# Altium footprint library 射频功率管.PcbLib: 7 footprints
Each footprint in its own frame and in the unit in brackets; x right, y up, seen from the top. Pads: shape width x height; smd on the part's side, far side on the other; paste and mask are expansions set on the pad; w line width, h text height; cw(c..) or ccw(c..) is an arc to the next point about the centre after c.
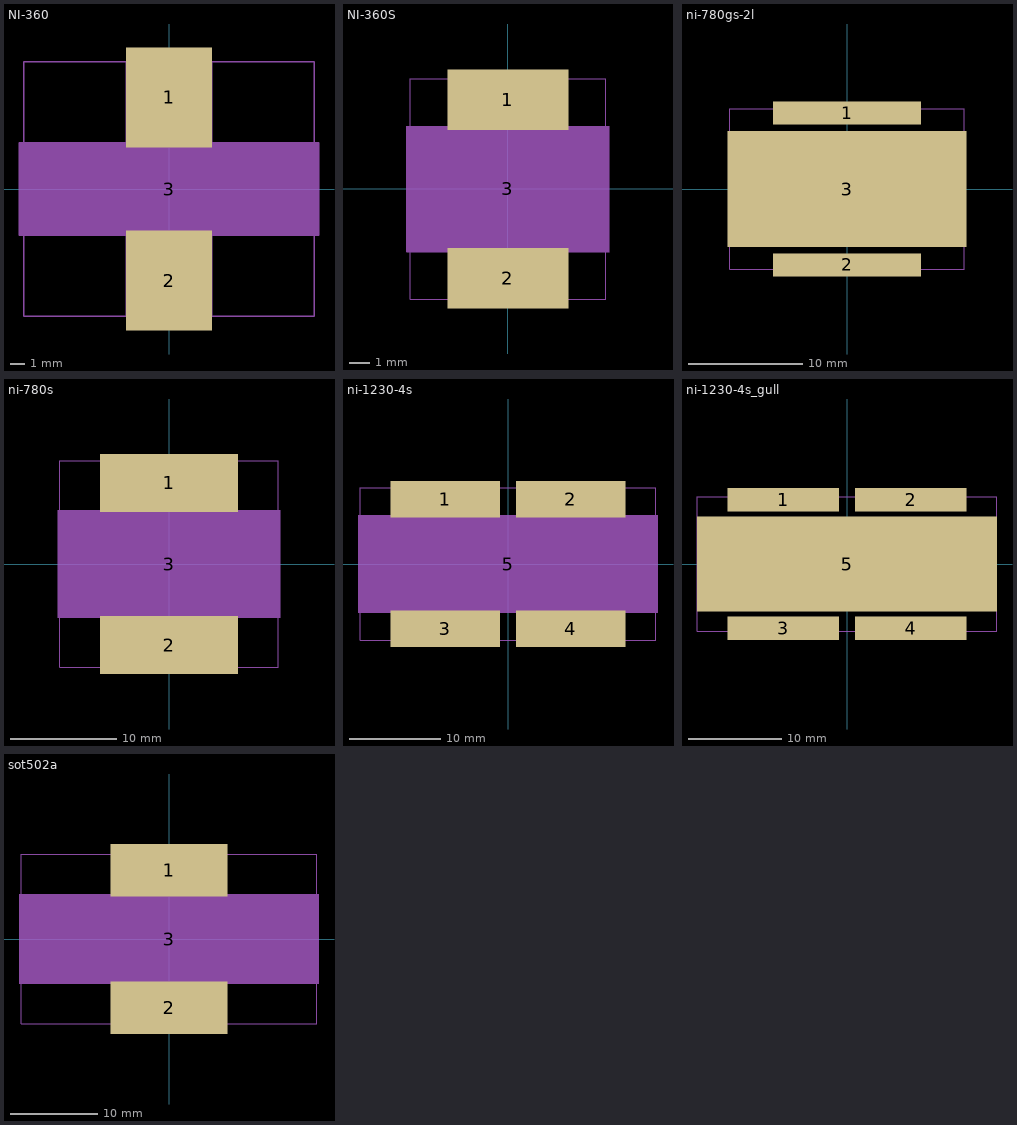
[diagram p0: the footprints below, top view; thin cyan lines are the x and y axes]

## NI-360 [mm] "RF 射频功率管"
height 5
pads (3):
  rect 6x7 smd: 1(0,6.42) 2(0,-6.42)
  rect 21x6.5 on Mech1: 3(0,0)
Mechanical 1:
  lines w0.1: -3,-3.25 -3,-8.89 3,-8.89 3,-3.25 ; -3,3.25 -3,8.89 3,8.89 3,3.25 ; -10.5,-3.25 -10.5,3.25 10.5,3.25 10.5,-3.25 -10.5,-3.25
Mechanical 13:
  lines w0.1: -10.16,-8.892 -10.16,8.892 10.16,8.892 10.16,-8.892 -10.16,-8.892
Mechanical 15:
  lines w0.25: -1.016,0 1,0 ; 0,-1 0,1
3D body: height 1.82, standoff -2, extent -10.16,-8.892 10.16,8.892

## NI-360S [mm] "RF 射频功率管"
height 5
pads (3):
  rect 6x3 smd: 1(0,4.42) 2(0,-4.42)
  rect 10x6.2 on Mech1: 3(0,0)
Mechanical 1:
  lines w0.05: -5,-3.1 -5,3.1 5,3.1 5,-3.1 -5,-3.1
Mechanical 13:
  lines w0.05: -4.827,-5.462 4.828,-5.462 4.828,5.462 -4.827,5.462 -4.827,-5.462
Mechanical 15:
  lines w0.25: -1.016,0 1,0 ; 0,-1 0,1
3D body: height 1.76, standoff -1.55, extent -4.827,-5.462 4.828,5.462

## ni-780gs-2l [mm] "RF 射频功率管"
height 5
pads (3):
  rect 13x2 smd: 1(0,6.66) 2(0,-6.66)
  rect 21x10.2 smd: 3(0,0)
Mechanical 13:
  lines w0.05: -10.29,-7.035 10.29,-7.035 10.29,7.035 -10.29,7.035 -10.29,-7.035
Mechanical 15:
  lines w0.25: -1.016,0 1,0 ; 0,-1 0,1
3D body: height 3.91, standoff 0.03, extent -10.29,-7.035 10.29,7.035

## ni-780s [mm] "RF 射频功率管"
height 5
pads (3):
  rect 13x5.5 smd: 1(0,7.64) 2(0,-7.64)
  rect 21x10.2 on Mech1: 3(0,0)
Mechanical 13:
  lines w0.05: 10.287,-9.72 -10.29,-9.72 -10.29,9.72 10.29,9.72 10.29,-9.72
Mechanical 15:
  lines w0.25: -1.016,0 1,0 ; 0,-1 0,1
3D body: height 2.15, standoff -1.6, extent -10.29,-9.72 10.29,9.72

## ni-1230-4s [mm] "RF 射频功率管"
height 5
pads (5):
  rect 12x4 smd: 1(-6.86,7.08) 2(6.86,7.08) 3(-6.86,-7.08) 4(6.86,-7.08)
  rect 32.8x10.7 on Mech1: 5(0,0)
Mechanical 13:
  lines w0.05: -16.13,-8.31 -16.13,8.31 16.13,8.31 16.13,-8.31 -16.13,-8.31
Mechanical 15:
  lines w0.25: -1.016,0 1,0 ; 0,-1 0,1
3D body: height 2.58, standoff -2, extent -16.13,-8.31 16.13,8.31

## ni-1230-4s_gull [mm] "RF 射频功率管"
height 5
pads (5):
  rect 12x2.5 smd: 1(-6.86,6.91) 2(6.86,6.91) 3(-6.86,-6.91) 4(6.86,-6.91)
  rect 32.3x10.2 smd: 5(0,0)
Mechanical 13:
  lines w0.05: -16.13,-7.25 -16.13,7.25 16.13,7.25 16.13,-7.25 -16.13,-7.25
Mechanical 15:
  lines w0.25: -1.016,0 1,0 ; 0,-1 0,1
3D body: height 4.68, standoff -0.04, extent -16.13,-7.25 16.13,7.25

## sot502a [mm] "RF 射频功率管"
height 5
pads (3):
  rect 13.5x6 smd: 1(0,7.9) 2(0,-7.9)
  rect 34.5x10.3 on Mech1: 3(0,0)
Mechanical 13:
  lines w0.05: -17.017,-9.72 -17.017,9.72 ; -17.017,-9.72 17.018,-9.72 ; -17.017,-9.72 -17.017,9.72 ; -17.017,-9.72 17.018,-9.72 ; -17.017,9.72 17.018,9.72 ; -17.017,9.72 17.018,9.72 ; 17.018,-9.72 17.018,9.72 ; 17.018,-9.72 17.018,9.72
Mechanical 15:
  lines w0.25: -1.016,0 1,0 ; 0,-1 0,1
3D body: height 2.48, standoff -1.6, extent -17.017,-9.72 17.018,9.72